# EAGLE library part DRV8301 (library perspection)
IC MOTOR CONTROLLER SPI 56HTSSOP Digi-key Page <http://www.digikey.com/product-detail/en/DRV8301DCAR/296-29433-1-ND/2743170>
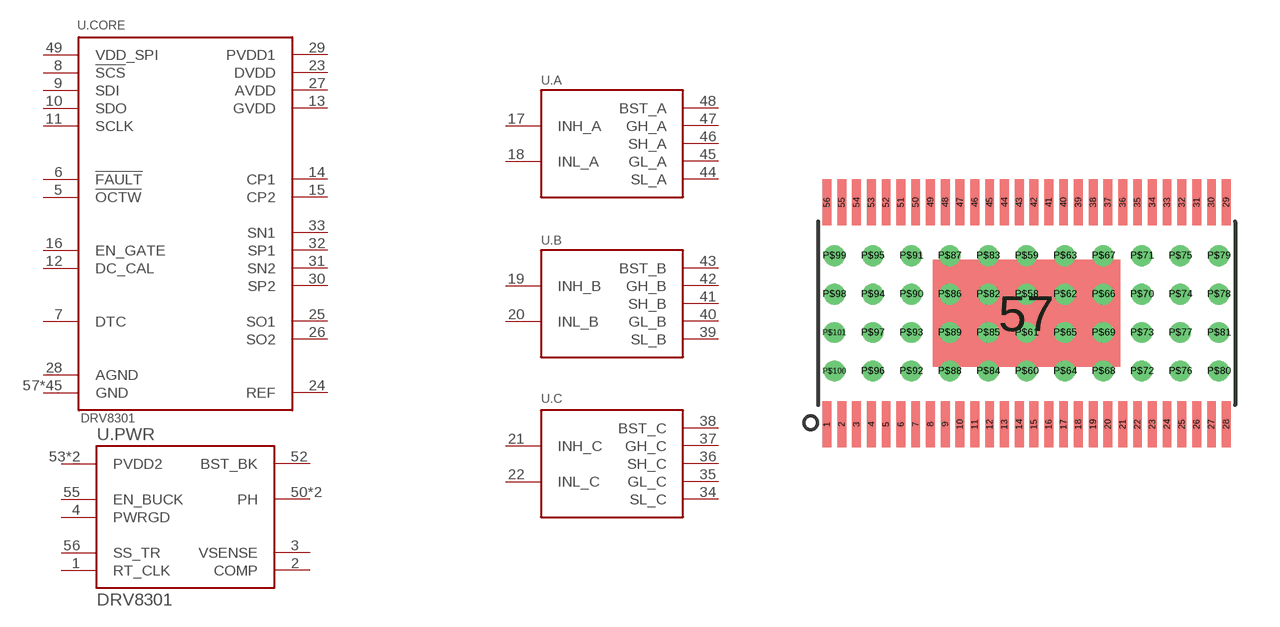
[diagram p6: symbol with the pads of TI-HTSSOP-56; footprint TI-HTSSOP-56]

Designator prefix U; gates .CORE=DRV8301-CORE .A=DRV8301_A .B=DRV8301_B .C=DRV8301_C .PWR=DRV8301-PWR

## DRV8301DCAR (DIST_NAME: Digi-Key; DIST_PN: 296-29433-1-ND; MFG_NAME: Texas Instruments; MFG_PN: DRV8301DCAR)  [TI-HTSSOP-56]
1  .PWR:RT_CLK
2  .PWR:COMP
3  .PWR:VSENSE
4  .PWR:PWRGD
5  .CORE:!OCTW
6  .CORE:!FAULT
7  .CORE:DTC
8  .CORE:!SCS
9  .CORE:SDI
10  .CORE:SDO
11  .CORE:SCLK
12  .CORE:DC_CAL
13  .CORE:GVDD
14  .CORE:CP1
15  .CORE:CP2
16  .CORE:EN_GATE
17  .A:INH_A
18  .A:INL_A
19  .B:INH_B
20  .B:INL_B
21  .C:INH_C
22  .C:INL_C
23  .CORE:DVDD
24  .CORE:REF
25  .CORE:SO1
26  .CORE:SO2
27  .CORE:AVDD
28  .CORE:AGND
29  .CORE:PVDD1
30  .CORE:SP2
31  .CORE:SN2
32  .CORE:SP1
33  .CORE:SN1
34  .C:SL_C
35  .C:GL_C
36  .C:SH_C
37  .C:GH_C
38  .C:BST_C
39  .B:SL_B
40  .B:GL_B
41  .B:SH_B
42  .B:GH_B
43  .B:BST_B
44  .A:SL_A
45  .A:GL_A
46  .A:SH_A
47  .A:GH_A
48  .A:BST_A
49  .CORE:VDD_SPI
50  .PWR:PH
51  .PWR:PH
52  .PWR:BST_BK
53  .PWR:PVDD2
54  .PWR:PVDD2
55  .PWR:EN_BUCK
56  .PWR:SS_TR
57  .CORE:GND
P$58  .CORE:GND
P$59  .CORE:GND
P$60  .CORE:GND
P$61  .CORE:GND
P$62  .CORE:GND
P$63  .CORE:GND
P$64  .CORE:GND
P$65  .CORE:GND
P$66  .CORE:GND
P$67  .CORE:GND
P$68  .CORE:GND
P$69  .CORE:GND
P$70  .CORE:GND
P$71  .CORE:GND
P$72  .CORE:GND
P$73  .CORE:GND
P$74  .CORE:GND
P$75  .CORE:GND
P$76  .CORE:GND
P$77  .CORE:GND
P$78  .CORE:GND
P$79  .CORE:GND
P$80  .CORE:GND
P$81  .CORE:GND
P$82  .CORE:GND
P$83  .CORE:GND
P$84  .CORE:GND
P$85  .CORE:GND
P$86  .CORE:GND
P$87  .CORE:GND
P$88  .CORE:GND
P$89  .CORE:GND
P$90  .CORE:GND
P$91  .CORE:GND
P$92  .CORE:GND
P$93  .CORE:GND
P$94  .CORE:GND
P$95  .CORE:GND
P$96  .CORE:GND
P$97  .CORE:GND
P$98  .CORE:GND
P$99  .CORE:GND
P$100  .CORE:GND
P$101  .CORE:GND

## Footprint TI-HTSSOP-56 (pad centres in mm)
smd 0.3 x 1.55: 1 -6.75,-3.75; 2 -6.25,-3.75; 3 -5.75,-3.75; 4 -5.25,-3.75; 5 -4.75,-3.75; 6 -4.25,-3.75; 7 -3.75,-3.75; 8 -3.25,-3.75; 9 -2.75,-3.75; 10 -2.25,-3.75; 11 -1.75,-3.75; 12 -1.25,-3.75; 13 -0.75,-3.75; 14 -0.25,-3.75; 15 0.25,-3.75; 16 0.75,-3.75; 17 1.25,-3.75; 18 1.75,-3.75; 19 2.25,-3.75; 20 2.75,-3.75; 21 3.25,-3.75; 22 3.75,-3.75; 23 4.25,-3.75; 24 4.75,-3.75; 25 5.25,-3.75; 26 5.75,-3.75; 27 6.25,-3.75; 28 6.75,-3.75; 29 6.75,3.75; 30 6.25,3.75; 31 5.75,3.75; 32 5.25,3.75; 33 4.75,3.75; 34 4.25,3.75; 35 3.75,3.75; 36 3.25,3.75; 37 2.75,3.75; 38 2.25,3.75; 39 1.75,3.75; 40 1.25,3.75; 41 0.75,3.75; 42 0.25,3.75; 43 -0.25,3.75; 44 -0.75,3.75; 45 -1.25,3.75; 46 -1.75,3.75; 47 -2.25,3.75; 48 -2.75,3.75; 49 -3.25,3.75; 50 -3.75,3.75; 51 -4.25,3.75; 52 -4.75,3.75; 53 -5.25,3.75; 54 -5.75,3.75; 55 -6.25,3.75; 56 -6.75,3.75
smd 6.35 x 3.61: 57 0,0
drill 0.2 pad 0.406: P$58 0,0.65; P$59 0,1.95; P$60 0,-1.95; P$61 0,-0.65; P$62 1.3,0.65; P$63 1.3,1.95; P$64 1.3,-1.95; P$65 1.3,-0.65; P$66 2.6,0.65; P$67 2.6,1.95; P$68 2.6,-1.95; P$69 2.6,-0.65; P$70 3.9,0.65; P$71 3.9,1.95; P$72 3.9,-1.95; P$73 3.9,-0.65; P$74 5.2,0.65; P$75 5.2,1.95; P$76 5.2,-1.95; P$77 5.2,-0.65; P$78 6.5,0.65; P$79 6.5,1.95; P$80 6.5,-1.95; P$81 6.5,-0.65; P$82 -1.3,0.65; P$83 -1.3,1.95; P$84 -1.3,-1.95; P$85 -1.3,-0.65; P$86 -2.6,0.65; P$87 -2.6,1.95; P$88 -2.6,-1.95; P$89 -2.6,-0.65; P$90 -3.9,0.65; P$91 -3.9,1.95; P$92 -3.9,-1.95; P$93 -3.9,-0.65; P$94 -5.2,0.65; P$95 -5.2,1.95; P$96 -5.2,-1.95; P$97 -5.2,-0.65; P$98 -6.5,0.65; P$99 -6.5,1.95; P$100 -6.5,-1.95; P$101 -6.5,-0.65